# Altium integrated library Linear Technology Power Management Power Control.IntLib: 661 symbols (part 36 of 43)
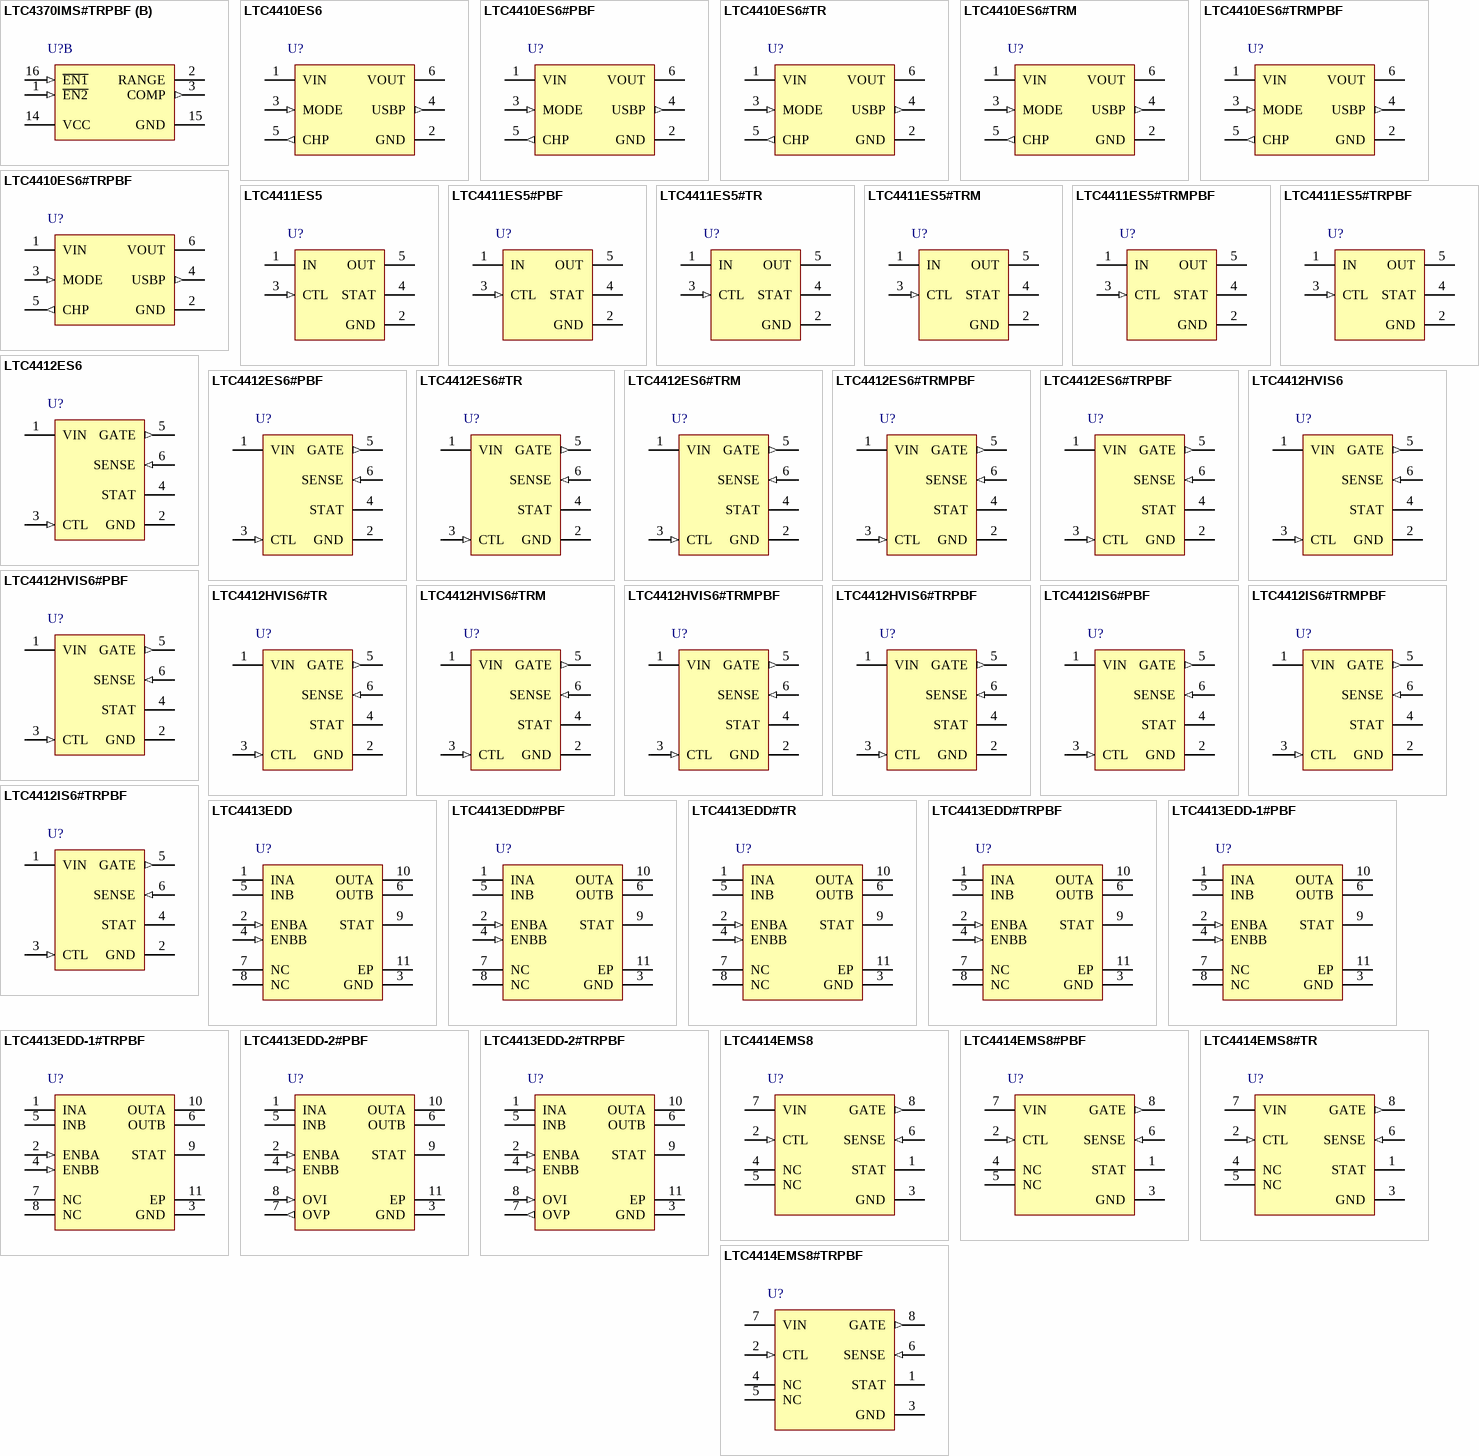
[diagram p54: symbols LTC4370IMS#TRPBF to LTC4414EMS8#TRPBF]

## LTC4413EDD-2#TRPBF
designator U?
Dual 2.6 A, Fast Ideal Diode, Overvoltage Protection Sensor with Drive Output for An External P-Channel MOSFET, 2.6 to 5.5 V Vin, 10-pin SON (DD-10), -40 to 85 degC, Pb-Free, Tape and Reel; Manufacturer: Linear Technology; PartNumber: LTC4413EDD-2#TRPBF; Ideal Diode: Dual, Internal, P-Channel; DatasheetVersion: Rev. D; PackageVersion: Rev. C, 06/2010; PackageReference: DD-10; PackageDescription: 10-Pin Plastic DFN, Body 3 x 3 mm, Pitch 0.5 mm; Supplier 1: Digi-Key; Supplier Part Number 1: LTC4413EDD-2#TRPBF-ND; Supplier 2: Newark; Supplier Part Number 2: 56M9528; Packing: Tape and Reel; RoHS: TRUE; Mounting Technology: Surface Mount; Code_JEDEC: MO-229; ComponentLink1Description: Manufacturer URL; ComponentLink1URL: http://www.linear.com/; ComponentLink2Description: Datasheet; ComponentLink2URL: http://cds.linear.com/docs/en/datasheet/441312fd.pdf; ComponentLink3Description: Package Specification; ComponentLink3URL: http://cds.linear.com/docs/en/packaging/DFN_10_05-08-1699.pdf
footprint LT-DD-10_V (SON, 10-Leads, Body 3x3mm, Pitch 0.5mm, Thermal Pad 2.38x1.65mm)
pins: 1 INA (power) "Primary Ideal Diode Anode and Positive Power Supply for LTC4413-1/LTC4413-2. Bypass INA with a ceramic capacitor of at least 1uF. (Series 1ohm snub resistors and higher valued capacitances are recommended when large (See Datasheet)", 2 ENBA (in) "Enable Low for Diode A. Pull this pin high to shut down this power path. Tie to GND to enable. Refer to Table 1 for mode control functionality. This pin can be left floating, a weak (3.5uA) pull-down internal to (See Datasheet)", 3 GND (power) "Power Ground for the IC.", 4 ENBB (in) "Enable Low for Diode B. Pull this pin high to shut down this power path. Tie to GND to enable. Refer to Table 1 for mode control functionality. This pin can be left floating, a weak (3.5uA) pull-down internal to (See Datasheet)", 5 INB (power) "Secondary Ideal Diode Anode and Positive Power Supply for LTC4413-1/LTC4413-2. Bypass INB with a ceramic capacitor of at least 1uF. (Series 1ohm snub resistors and higher valued capacitances are recommended when large (See Datasheet)", 6 OUTB (power) "Secondary Ideal Diode Cathode and Output of the LTC4413-1/LTC4413-2. Bypass OUTB with a high (1mohm min) ESR ceramic capacitor of at least 4.7uF. This pin must be left floating when not in use. Limit slew rate on this pin to (See Datasheet)", 7 OVP (out) "Drive Output for an External OVP Switch PMOS Transistor (To Inhibit Overvoltage Wall Adapter Voltages from Damaging Device.) During overvoltage conditions, this output will remain high so long as an overvoltage condition (See Datasheet)", 8 OVI (in) "Sense Input for Overvoltage Protection Block. This pin can be left floating or grounded when not used.", 9 STAT (oc) "Status Condition Indicator. Weak (11uA) pull-down current output. When terminated, high indicates diode conducting. Refer to Table 2 for the operation of this pin. This pin can also be left floating or grounded.", 10 OUTA (power) "Primary Ideal Diode Cathode and Output of the LTC4413-1/LTC4413-2. Bypass OUTA with a high (1mohm min) ESR ceramic capacitor of at least 4.7uF. This pin must be left floating when not in use. Limit slew rate on this pin to (See Datasheet)", 11 EP (power) "Signal Ground. This pin must be soldered to PCB ground to provide both electrical contact to ground and good thermal contact to PCB."

## LTC4414EMS8
designator U?
Low Loss PowerPath Controller for Large PFET, 3 to 36 V Vin, 8-pin SOP (MS8-8), -40 to 85 degC; Manufacturer: Linear Technology; PartNumber: LTC4414EMS8; Ideal Diode: Single, External, P-Channel; DatasheetVersion: Rev. C; PackageVersion: Rev. G, 03/2012; PackageReference: MS8-8; PackageDescription: 8-Pin Plastic MSOP, Body 3 x 3 mm, Pitch 0.65 mm; Supplier 1: Newark; Supplier Part Number 1: 56M9532; RoHS: FALSE; Mounting Technology: Surface Mount; ComponentLink1Description: Manufacturer URL; ComponentLink1URL: http://www.linear.com/; ComponentLink2Description: Datasheet; ComponentLink2URL: http://cds.linear.com/docs/en/datasheet/4414fc.pdf; ComponentLink3Description: Package Specification; ComponentLink3URL: http://cds.linear.com/docs/en/packaging/05081660_G_MS8.pdf
footprint LT-MS8-8_N (SOP, 8-Leads, Body 3.1x3.1mm, Pitch 0.65mm, IPC Medium Density)
footprint LT-MS8-8_L (SOP, 8-Leads, Body 3.1x3.1mm, Pitch 0.65mm, IPC High Density)
footprint LT-MS8-8_M (SOP, 8-Leads, Body 3.1x3.1mm, Pitch 0.65mm, IPC Low Density)
pins: 1 STAT (oc) "Open-Drain Output Status Pin. When the SENSE pin is pulled above the VIN pin with an auxiliary power source by VRTO or more, the reverse turn-off threshold (VRTO) is reached. The STAT pin will then go from an open state to a (See Datasheet)", 2 CTL (in) "Digital Control Input. A logical high input (VIH) on this pin forces the gate to source voltage of the primary P-channel MOSFET power switch to a small voltage (VGOFF). This will turn the MOSFET off and no current will flow (See Datasheet)", 3 GND (power) "Ground. Provides a power return for all the internal circuits.", 4 NC "No Connection.", 5 NC "No Connection.", 6 SENSE (in) "Power Sense Input Pin. Supplies power to the internal circuitry and is a voltage sense input to the internal analog controller (The other input to the controller is the VIN pin). This input is usually supplied power from an (See Datasheet)", 7 VIN (power) "Primary Input Supply Voltage. Supplies power to the internal circuitry and is one of two voltage sense inputs to the internal analog controller (The other input to the controller is the SENSE pin). This input is usually (See Datasheet)", 8 GATE (out) "Primary P-Channel MOSFET Power Switch Gate Drive Pin. This pin is directed by the power controller to maintain a forward regulation voltage (VFR) of 20mV between the VIN and SENSE pins when an auxiliary power source is not (See Datasheet)"

## LTC4414EMS8#PBF
designator U?
Low Loss PowerPath Controller for Large PFET, 3 to 36 V Vin, 8-pin SOP (MS8-8), -40 to 85 degC, Pb-Free; Manufacturer: Linear Technology; PartNumber: LTC4414EMS8#PBF; Ideal Diode: Single, External, P-Channel; DatasheetVersion: Rev. C; PackageVersion: Rev. G, 03/2012; PackageReference: MS8-8; PackageDescription: 8-Pin Plastic MSOP, Body 3 x 3 mm, Pitch 0.65 mm; Supplier 1: Digi-Key; Supplier Part Number 1: LTC4414EMS8#PBF-ND; Supplier 2: Farnell; Supplier Part Number 2: 1273551; Supplier 3: Newark; Supplier Part Number 3: 56M9533; RoHS: TRUE; Mounting Technology: Surface Mount; ComponentLink1Description: Manufacturer URL; ComponentLink1URL: http://www.linear.com/; ComponentLink2Description: Datasheet; ComponentLink2URL: http://cds.linear.com/docs/en/datasheet/4414fc.pdf; ComponentLink3Description: Package Specification; ComponentLink3URL: http://cds.linear.com/docs/en/packaging/05081660_G_MS8.pdf
footprint LT-MS8-8_N (SOP, 8-Leads, Body 3.1x3.1mm, Pitch 0.65mm, IPC Medium Density)
footprint LT-MS8-8_L (SOP, 8-Leads, Body 3.1x3.1mm, Pitch 0.65mm, IPC High Density)
footprint LT-MS8-8_M (SOP, 8-Leads, Body 3.1x3.1mm, Pitch 0.65mm, IPC Low Density)
pins: 1 STAT (oc) "Open-Drain Output Status Pin. When the SENSE pin is pulled above the VIN pin with an auxiliary power source by VRTO or more, the reverse turn-off threshold (VRTO) is reached. The STAT pin will then go from an open state to a (See Datasheet)", 2 CTL (in) "Digital Control Input. A logical high input (VIH) on this pin forces the gate to source voltage of the primary P-channel MOSFET power switch to a small voltage (VGOFF). This will turn the MOSFET off and no current will flow (See Datasheet)", 3 GND (power) "Ground. Provides a power return for all the internal circuits.", 4 NC "No Connection.", 5 NC "No Connection.", 6 SENSE (in) "Power Sense Input Pin. Supplies power to the internal circuitry and is a voltage sense input to the internal analog controller (The other input to the controller is the VIN pin). This input is usually supplied power from an (See Datasheet)", 7 VIN (power) "Primary Input Supply Voltage. Supplies power to the internal circuitry and is one of two voltage sense inputs to the internal analog controller (The other input to the controller is the SENSE pin). This input is usually (See Datasheet)", 8 GATE (out) "Primary P-Channel MOSFET Power Switch Gate Drive Pin. This pin is directed by the power controller to maintain a forward regulation voltage (VFR) of 20mV between the VIN and SENSE pins when an auxiliary power source is not (See Datasheet)"

## LTC4414EMS8#TR
designator U?
Low Loss PowerPath Controller for Large PFET, 3 to 36 V Vin, 8-pin SOP (MS8-8), -40 to 85 degC, Tape and Reel; Manufacturer: Linear Technology; PartNumber: LTC4414EMS8#TR; Ideal Diode: Single, External, P-Channel; DatasheetVersion: Rev. C; PackageVersion: Rev. G, 03/2012; PackageReference: MS8-8; PackageDescription: 8-Pin Plastic MSOP, Body 3 x 3 mm, Pitch 0.65 mm; Packing: Tape and Reel; RoHS: FALSE; Mounting Technology: Surface Mount; ComponentLink1Description: Manufacturer URL; ComponentLink1URL: http://www.linear.com/; ComponentLink2Description: Datasheet; ComponentLink2URL: http://cds.linear.com/docs/en/datasheet/4414fc.pdf; ComponentLink3Description: Package Specification; ComponentLink3URL: http://cds.linear.com/docs/en/packaging/05081660_G_MS8.pdf
footprint LT-MS8-8_N (SOP, 8-Leads, Body 3.1x3.1mm, Pitch 0.65mm, IPC Medium Density)
footprint LT-MS8-8_L (SOP, 8-Leads, Body 3.1x3.1mm, Pitch 0.65mm, IPC High Density)
footprint LT-MS8-8_M (SOP, 8-Leads, Body 3.1x3.1mm, Pitch 0.65mm, IPC Low Density)
pins: 1 STAT (oc) "Open-Drain Output Status Pin. When the SENSE pin is pulled above the VIN pin with an auxiliary power source by VRTO or more, the reverse turn-off threshold (VRTO) is reached. The STAT pin will then go from an open state to a (See Datasheet)", 2 CTL (in) "Digital Control Input. A logical high input (VIH) on this pin forces the gate to source voltage of the primary P-channel MOSFET power switch to a small voltage (VGOFF). This will turn the MOSFET off and no current will flow (See Datasheet)", 3 GND (power) "Ground. Provides a power return for all the internal circuits.", 4 NC "No Connection.", 5 NC "No Connection.", 6 SENSE (in) "Power Sense Input Pin. Supplies power to the internal circuitry and is a voltage sense input to the internal analog controller (The other input to the controller is the VIN pin). This input is usually supplied power from an (See Datasheet)", 7 VIN (power) "Primary Input Supply Voltage. Supplies power to the internal circuitry and is one of two voltage sense inputs to the internal analog controller (The other input to the controller is the SENSE pin). This input is usually (See Datasheet)", 8 GATE (out) "Primary P-Channel MOSFET Power Switch Gate Drive Pin. This pin is directed by the power controller to maintain a forward regulation voltage (VFR) of 20mV between the VIN and SENSE pins when an auxiliary power source is not (See Datasheet)"

## LTC4414EMS8#TRPBF
designator U?
Low Loss PowerPath Controller for Large PFET, 3 to 36 V Vin, 8-pin SOP (MS8-8), -40 to 85 degC, Pb-Free, Tape and Reel; Manufacturer: Linear Technology; PartNumber: LTC4414EMS8#TRPBF; Ideal Diode: Single, External, P-Channel; DatasheetVersion: Rev. C; PackageVersion: Rev. G, 03/2012; PackageReference: MS8-8; PackageDescription: 8-Pin Plastic MSOP, Body 3 x 3 mm, Pitch 0.65 mm; Supplier 1: Digi-Key; Supplier Part Number 1: LTC4414EMS8#TRPBF-ND; Supplier 2: Newark; Supplier Part Number 2: 56M9535; Packing: Tape and Reel; RoHS: TRUE; Mounting Technology: Surface Mount; ComponentLink1Description: Manufacturer URL; ComponentLink1URL: http://www.linear.com/; ComponentLink2Description: Datasheet; ComponentLink2URL: http://cds.linear.com/docs/en/datasheet/4414fc.pdf; ComponentLink3Description: Package Specification; ComponentLink3URL: http://cds.linear.com/docs/en/packaging/05081660_G_MS8.pdf
footprint LT-MS8-8_N (SOP, 8-Leads, Body 3.1x3.1mm, Pitch 0.65mm, IPC Medium Density)
footprint LT-MS8-8_L (SOP, 8-Leads, Body 3.1x3.1mm, Pitch 0.65mm, IPC High Density)
footprint LT-MS8-8_M (SOP, 8-Leads, Body 3.1x3.1mm, Pitch 0.65mm, IPC Low Density)
pins: 1 STAT (oc) "Open-Drain Output Status Pin. When the SENSE pin is pulled above the VIN pin with an auxiliary power source by VRTO or more, the reverse turn-off threshold (VRTO) is reached. The STAT pin will then go from an open state to a (See Datasheet)", 2 CTL (in) "Digital Control Input. A logical high input (VIH) on this pin forces the gate to source voltage of the primary P-channel MOSFET power switch to a small voltage (VGOFF). This will turn the MOSFET off and no current will flow (See Datasheet)", 3 GND (power) "Ground. Provides a power return for all the internal circuits.", 4 NC "No Connection.", 5 NC "No Connection.", 6 SENSE (in) "Power Sense Input Pin. Supplies power to the internal circuitry and is a voltage sense input to the internal analog controller (The other input to the controller is the VIN pin). This input is usually supplied power from an (See Datasheet)", 7 VIN (power) "Primary Input Supply Voltage. Supplies power to the internal circuitry and is one of two voltage sense inputs to the internal analog controller (The other input to the controller is the SENSE pin). This input is usually (See Datasheet)", 8 GATE (out) "Primary P-Channel MOSFET Power Switch Gate Drive Pin. This pin is directed by the power controller to maintain a forward regulation voltage (VFR) of 20mV between the VIN and SENSE pins when an auxiliary power source is not (See Datasheet)"

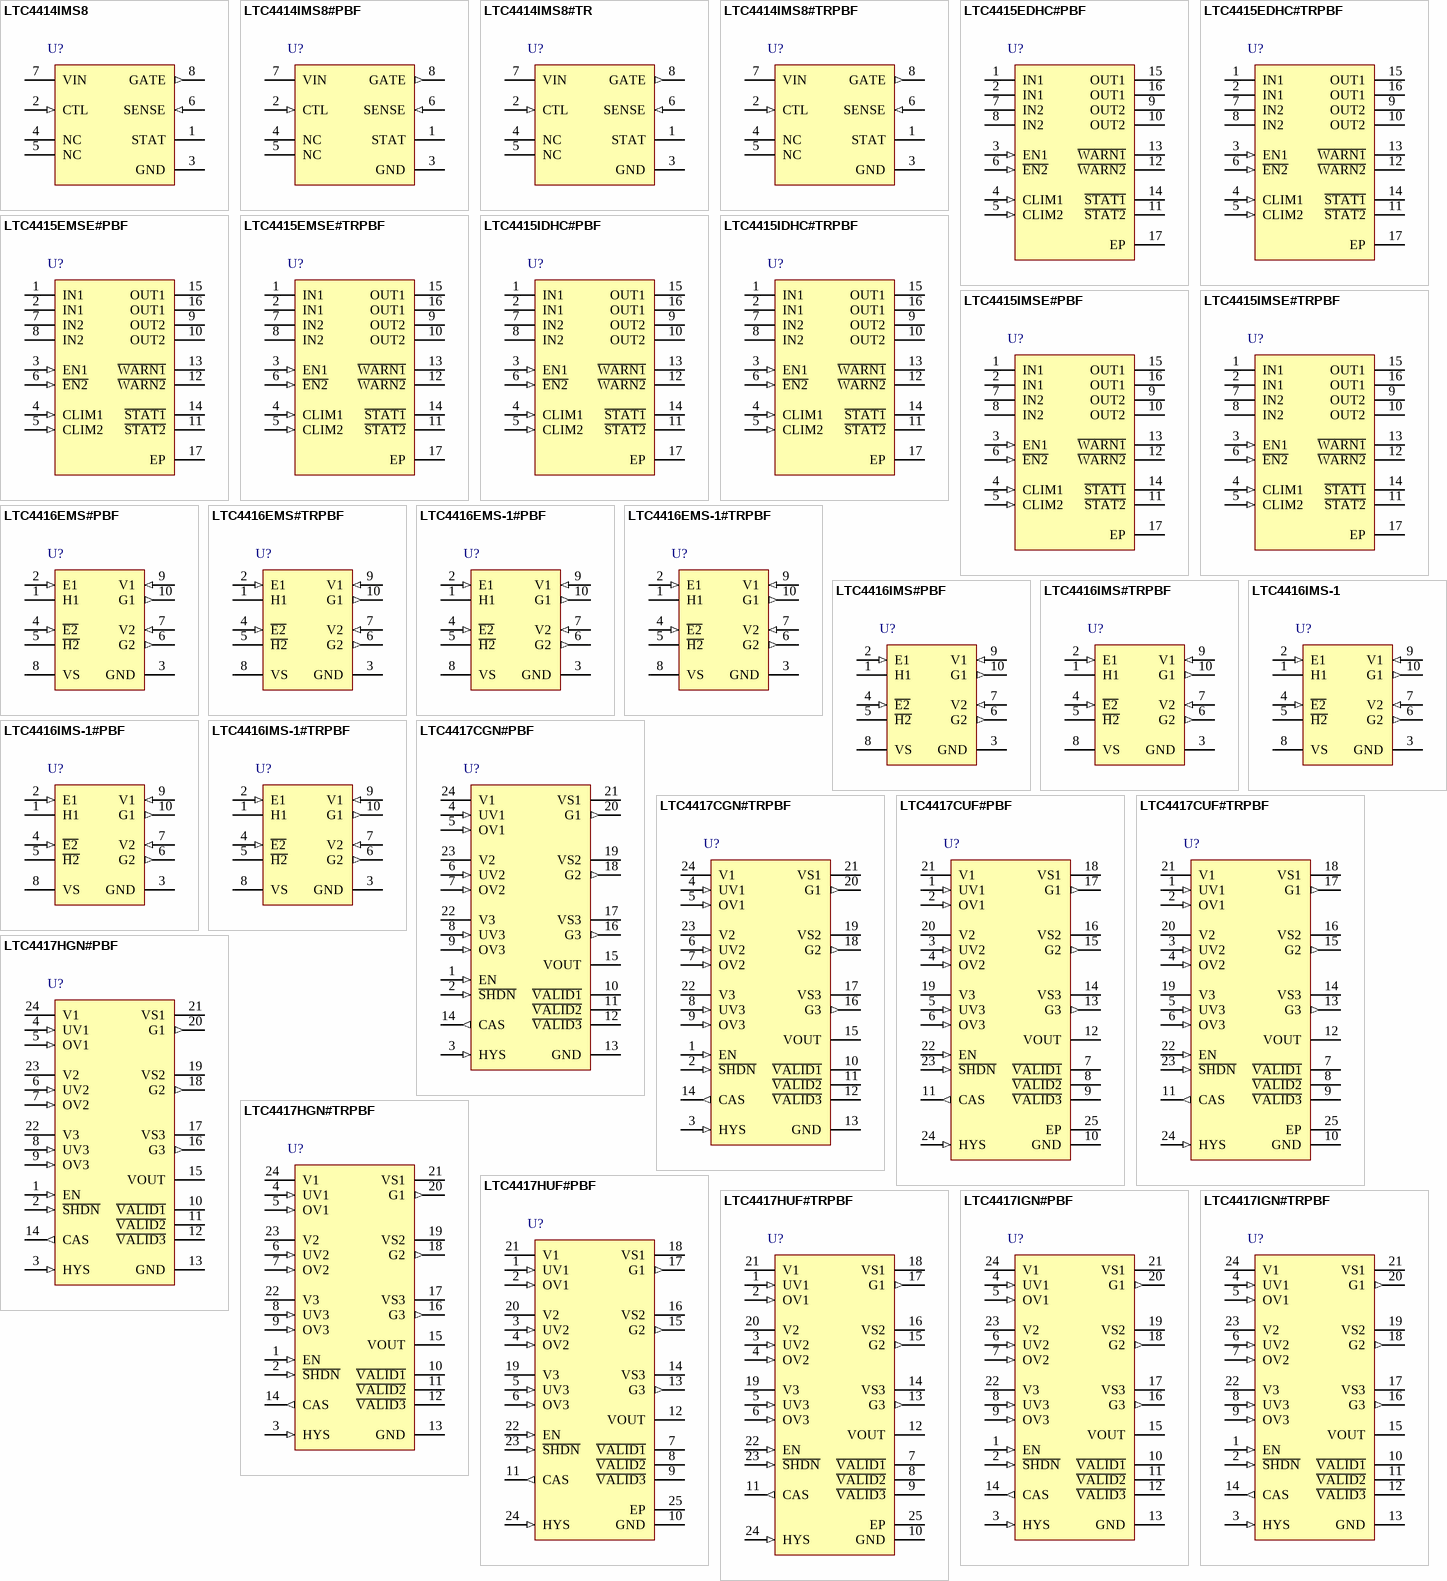
[diagram p17: symbols LTC4414IMS8 to LTC4417IGN#TRPBF]

## LTC4414IMS8
designator U?
Low Loss PowerPath Controller for Large PFET, 3 to 36 V Vin, 8-pin SOP (MS8-8), -40 to 125 degC; Manufacturer: Linear Technology; PartNumber: LTC4414IMS8; Ideal Diode: Single, External, P-Channel; DatasheetVersion: Rev. C; PackageVersion: Rev. G, 03/2012; PackageReference: MS8-8; PackageDescription: 8-Pin Plastic MSOP, Body 3 x 3 mm, Pitch 0.65 mm; RoHS: FALSE; Mounting Technology: Surface Mount; ComponentLink1Description: Manufacturer URL; ComponentLink1URL: http://www.linear.com/; ComponentLink2Description: Datasheet; ComponentLink2URL: http://cds.linear.com/docs/en/datasheet/4414fc.pdf; ComponentLink3Description: Package Specification; ComponentLink3URL: http://cds.linear.com/docs/en/packaging/05081660_G_MS8.pdf
footprint LT-MS8-8_N (SOP, 8-Leads, Body 3.1x3.1mm, Pitch 0.65mm, IPC Medium Density)
footprint LT-MS8-8_L (SOP, 8-Leads, Body 3.1x3.1mm, Pitch 0.65mm, IPC High Density)
footprint LT-MS8-8_M (SOP, 8-Leads, Body 3.1x3.1mm, Pitch 0.65mm, IPC Low Density)
pins: 1 STAT (oc) "Open-Drain Output Status Pin. When the SENSE pin is pulled above the VIN pin with an auxiliary power source by VRTO or more, the reverse turn-off threshold (VRTO) is reached. The STAT pin will then go from an open state to a (See Datasheet)", 2 CTL (in) "Digital Control Input. A logical high input (VIH) on this pin forces the gate to source voltage of the primary P-channel MOSFET power switch to a small voltage (VGOFF). This will turn the MOSFET off and no current will flow (See Datasheet)", 3 GND (power) "Ground. Provides a power return for all the internal circuits.", 4 NC "No Connection.", 5 NC "No Connection.", 6 SENSE (in) "Power Sense Input Pin. Supplies power to the internal circuitry and is a voltage sense input to the internal analog controller (The other input to the controller is the VIN pin). This input is usually supplied power from an (See Datasheet)", 7 VIN (power) "Primary Input Supply Voltage. Supplies power to the internal circuitry and is one of two voltage sense inputs to the internal analog controller (The other input to the controller is the SENSE pin). This input is usually (See Datasheet)", 8 GATE (out) "Primary P-Channel MOSFET Power Switch Gate Drive Pin. This pin is directed by the power controller to maintain a forward regulation voltage (VFR) of 20mV between the VIN and SENSE pins when an auxiliary power source is not (See Datasheet)"

## LTC4414IMS8#PBF
designator U?
Low Loss PowerPath Controller for Large PFET, 3 to 36 V Vin, 8-pin SOP (MS8-8), -40 to 125 degC, Pb-Free; Manufacturer: Linear Technology; PartNumber: LTC4414IMS8#PBF; Ideal Diode: Single, External, P-Channel; DatasheetVersion: Rev. C; PackageVersion: Rev. G, 03/2012; PackageReference: MS8-8; PackageDescription: 8-Pin Plastic MSOP, Body 3 x 3 mm, Pitch 0.65 mm; Supplier 1: Digi-Key; Supplier Part Number 1: LTC4414IMS8#PBF-ND; Supplier 2: Newark; Supplier Part Number 2: 56M9537; RoHS: TRUE; Mounting Technology: Surface Mount; ComponentLink1Description: Manufacturer URL; ComponentLink1URL: http://www.linear.com/; ComponentLink2Description: Datasheet; ComponentLink2URL: http://cds.linear.com/docs/en/datasheet/4414fc.pdf; ComponentLink3Description: Package Specification; ComponentLink3URL: http://cds.linear.com/docs/en/packaging/05081660_G_MS8.pdf
footprint LT-MS8-8_N (SOP, 8-Leads, Body 3.1x3.1mm, Pitch 0.65mm, IPC Medium Density)
footprint LT-MS8-8_L (SOP, 8-Leads, Body 3.1x3.1mm, Pitch 0.65mm, IPC High Density)
footprint LT-MS8-8_M (SOP, 8-Leads, Body 3.1x3.1mm, Pitch 0.65mm, IPC Low Density)
pins: 1 STAT (oc) "Open-Drain Output Status Pin. When the SENSE pin is pulled above the VIN pin with an auxiliary power source by VRTO or more, the reverse turn-off threshold (VRTO) is reached. The STAT pin will then go from an open state to a (See Datasheet)", 2 CTL (in) "Digital Control Input. A logical high input (VIH) on this pin forces the gate to source voltage of the primary P-channel MOSFET power switch to a small voltage (VGOFF). This will turn the MOSFET off and no current will flow (See Datasheet)", 3 GND (power) "Ground. Provides a power return for all the internal circuits.", 4 NC "No Connection.", 5 NC "No Connection.", 6 SENSE (in) "Power Sense Input Pin. Supplies power to the internal circuitry and is a voltage sense input to the internal analog controller (The other input to the controller is the VIN pin). This input is usually supplied power from an (See Datasheet)", 7 VIN (power) "Primary Input Supply Voltage. Supplies power to the internal circuitry and is one of two voltage sense inputs to the internal analog controller (The other input to the controller is the SENSE pin). This input is usually (See Datasheet)", 8 GATE (out) "Primary P-Channel MOSFET Power Switch Gate Drive Pin. This pin is directed by the power controller to maintain a forward regulation voltage (VFR) of 20mV between the VIN and SENSE pins when an auxiliary power source is not (See Datasheet)"

## LTC4414IMS8#TR
designator U?
Low Loss PowerPath Controller for Large PFET, 3 to 36 V Vin, 8-pin SOP (MS8-8), -40 to 125 degC, Tape and Reel; Manufacturer: Linear Technology; PartNumber: LTC4414IMS8#TR; Ideal Diode: Single, External, P-Channel; DatasheetVersion: Rev. C; PackageVersion: Rev. G, 03/2012; PackageReference: MS8-8; PackageDescription: 8-Pin Plastic MSOP, Body 3 x 3 mm, Pitch 0.65 mm; Packing: Tape and Reel; RoHS: FALSE; Mounting Technology: Surface Mount; ComponentLink1Description: Manufacturer URL; ComponentLink1URL: http://www.linear.com/; ComponentLink2Description: Datasheet; ComponentLink2URL: http://cds.linear.com/docs/en/datasheet/4414fc.pdf; ComponentLink3Description: Package Specification; ComponentLink3URL: http://cds.linear.com/docs/en/packaging/05081660_G_MS8.pdf
footprint LT-MS8-8_N (SOP, 8-Leads, Body 3.1x3.1mm, Pitch 0.65mm, IPC Medium Density)
footprint LT-MS8-8_L (SOP, 8-Leads, Body 3.1x3.1mm, Pitch 0.65mm, IPC High Density)
footprint LT-MS8-8_M (SOP, 8-Leads, Body 3.1x3.1mm, Pitch 0.65mm, IPC Low Density)
pins: 1 STAT (oc) "Open-Drain Output Status Pin. When the SENSE pin is pulled above the VIN pin with an auxiliary power source by VRTO or more, the reverse turn-off threshold (VRTO) is reached. The STAT pin will then go from an open state to a (See Datasheet)", 2 CTL (in) "Digital Control Input. A logical high input (VIH) on this pin forces the gate to source voltage of the primary P-channel MOSFET power switch to a small voltage (VGOFF). This will turn the MOSFET off and no current will flow (See Datasheet)", 3 GND (power) "Ground. Provides a power return for all the internal circuits.", 4 NC "No Connection.", 5 NC "No Connection.", 6 SENSE (in) "Power Sense Input Pin. Supplies power to the internal circuitry and is a voltage sense input to the internal analog controller (The other input to the controller is the VIN pin). This input is usually supplied power from an (See Datasheet)", 7 VIN (power) "Primary Input Supply Voltage. Supplies power to the internal circuitry and is one of two voltage sense inputs to the internal analog controller (The other input to the controller is the SENSE pin). This input is usually (See Datasheet)", 8 GATE (out) "Primary P-Channel MOSFET Power Switch Gate Drive Pin. This pin is directed by the power controller to maintain a forward regulation voltage (VFR) of 20mV between the VIN and SENSE pins when an auxiliary power source is not (See Datasheet)"

## LTC4414IMS8#TRPBF
designator U?
Low Loss PowerPath Controller for Large PFET, 3 to 36 V Vin, 8-pin SOP (MS8-8), -40 to 125 degC, Pb-Free, Tape and Reel; Manufacturer: Linear Technology; PartNumber: LTC4414IMS8#TRPBF; Ideal Diode: Single, External, P-Channel; DatasheetVersion: Rev. C; PackageVersion: Rev. G, 03/2012; PackageReference: MS8-8; PackageDescription: 8-Pin Plastic MSOP, Body 3 x 3 mm, Pitch 0.65 mm; Supplier 1: Digi-Key; Supplier Part Number 1: LTC4414IMS8#TRPBF-ND; Supplier 2: Newark; Supplier Part Number 2: 56M9539; Packing: Tape and Reel; RoHS: TRUE; Mounting Technology: Surface Mount; ComponentLink1Description: Manufacturer URL; ComponentLink1URL: http://www.linear.com/; ComponentLink2Description: Datasheet; ComponentLink2URL: http://cds.linear.com/docs/en/datasheet/4414fc.pdf; ComponentLink3Description: Package Specification; ComponentLink3URL: http://cds.linear.com/docs/en/packaging/05081660_G_MS8.pdf
footprint LT-MS8-8_N (SOP, 8-Leads, Body 3.1x3.1mm, Pitch 0.65mm, IPC Medium Density)
footprint LT-MS8-8_L (SOP, 8-Leads, Body 3.1x3.1mm, Pitch 0.65mm, IPC High Density)
footprint LT-MS8-8_M (SOP, 8-Leads, Body 3.1x3.1mm, Pitch 0.65mm, IPC Low Density)
pins: 1 STAT (oc) "Open-Drain Output Status Pin. When the SENSE pin is pulled above the VIN pin with an auxiliary power source by VRTO or more, the reverse turn-off threshold (VRTO) is reached. The STAT pin will then go from an open state to a (See Datasheet)", 2 CTL (in) "Digital Control Input. A logical high input (VIH) on this pin forces the gate to source voltage of the primary P-channel MOSFET power switch to a small voltage (VGOFF). This will turn the MOSFET off and no current will flow (See Datasheet)", 3 GND (power) "Ground. Provides a power return for all the internal circuits.", 4 NC "No Connection.", 5 NC "No Connection.", 6 SENSE (in) "Power Sense Input Pin. Supplies power to the internal circuitry and is a voltage sense input to the internal analog controller (The other input to the controller is the VIN pin). This input is usually supplied power from an (See Datasheet)", 7 VIN (power) "Primary Input Supply Voltage. Supplies power to the internal circuitry and is one of two voltage sense inputs to the internal analog controller (The other input to the controller is the SENSE pin). This input is usually (See Datasheet)", 8 GATE (out) "Primary P-Channel MOSFET Power Switch Gate Drive Pin. This pin is directed by the power controller to maintain a forward regulation voltage (VFR) of 20mV between the VIN and SENSE pins when an auxiliary power source is not (See Datasheet)"

## LTC4415EDHC#PBF
designator U?
Dual 4 A Ideal Diode with Adjustable Current Limit, Imon Output, Overcurrent Warning, Thermal Warning, 1.7 to 5.5 V Vin, 16-pin DFN (DHC-16_A), -40 to 125 degC, Pb-Free; Manufacturer: Linear Technology; PartNumber: LTC4415EDHC#PBF; Ideal Diode: Dual, Internal, P-Channel; DatasheetVersion: Rev. Ø; PackageVersion: Rev. Ø; PackageReference: DHC-16; PackageDescription: 16-Pin Plastic DFN, Body 5 x 3 mm, Pitch 0.5 mm; Supplier 1: Digi-Key; Supplier Part Number 1: LTC4415EDHC#PBF-ND; Supplier 2: Newark; Supplier Part Number 2: 78T3426; RoHS: TRUE; Mounting Technology: Surface Mount; Code_JEDEC: MO-229; ComponentLink1Description: Manufacturer URL; ComponentLink1URL: http://www.linear.com/; ComponentLink2Description: Datasheet; ComponentLink2URL: http://cds.linear.com/docs/en/datasheet/4415fa.pdf; ComponentLink3Description: Package Specification; ComponentLink3URL: http://cds.linear.com/docs/en/datasheet/4415fa.pdf
footprint LT-DHC-16_A_V (DHC-16_A, 16-Leads, Body 5x3mm, Pitch 0.5mm, Thermal Pad 4.4x1.65mm)
pins: 1 IN1 (power) "Diode 1 Anode and Positive Power Supply for LTC4415. Bypass IN1 with a ceramic capacitor of at least 4.7uF. Pins 1 and 2 are fused together on the package. These pins can be grounded when not used.", 2 IN1 (power) "Diode 1 Anode and Positive Power Supply for LTC4415. Bypass IN1 with a ceramic capacitor of at least 4.7uF. Pins 1 and 2 are fused together on the package. These pins can be grounded when not used.", 3 EN1 (in) "Enable Input for Diode 1. A high signal greater than VENTH enables Diode 1.", 4 CLIM1 (in) "Current Limit Adjust and Monitor Pin for Diode 1. Connect a resistor from CLIM1 to ground to set the current limit; the diode 1 current can then be monitored by measuring the voltage on CLIM1 pin. A fixed 6A internal current (See Datasheet)", 5 CLIM2 (in) "Current Limit Adjust and Monitor Pin for Diode 2. Connect a resistor from CLIM2 to ground to set the current limit; the diode 2 current can then be monitored by measuring the voltage on CLIM2 pin. A fixed 6A internal current (See Datasheet)", 6 ~{EN2} (in) "Enable Input for Diode 2. A low signal less than VENTH enables Diode 2.", 7 IN2 (power) "Diode 2 Anode and Positive Power Supply for LTC4415. Bypass IN2 with a ceramic capacitor of at least 4.7uF. Pins 7 and 8 are fused together on the package. These pins can be grounded when not used.", 8 IN2 (power) "Diode 2 Anode and Positive Power Supply for LTC4415. Bypass IN2 with a ceramic capacitor of at least 4.7uF. Pins 7 and 8 are fused together on the package. These pins can be grounded when not used.", 9 OUT2 (power) "Diode 2 Cathode and Output of LTC4415. Bypass OUT2 with a ceramic capacitor of at least 4.7uF. Pins 9 and 10 are fused together on the package. Leave these pins open when not used.", 10 OUT2 (power) "Diode 2 Cathode and Output of LTC4415. Bypass OUT2 with a ceramic capacitor of at least 4.7uF. Pins 9 and 10 are fused together on the package. Leave these pins open when not used.", 11 ~{STAT2} (hiz) "Status Indicator for Diode 2. Open-drain output pulls down during forward diode conduction. This pin can be left open or grounded when not used.", 12 ~{WARN2} (oc) "Overcurrent and Thermal Warning Indicator for Diode 2. Open-drain output pulls down when diode 2 current exceeds its current limit or die temperature is close to thermal shutdown.", 13 ~{WARN1} (oc) "Overcurrent and Thermal Warning Indicator for Diode 1. Open-drain output pulls down when diode 1 current exceeds its current limit or die temperature is close to thermal shutdown.", 14 ~{STAT1} (hiz) "Status Indicator for Diode 1. Open-drain output pulls down during forward diode conduction. This pin can be left open or grounded when not used.", 15 OUT1 (power) "Diode 1 Cathode and Output of LTC4415. Bypass OUT1 with a ceramic capacitor of at least 4.7uF. Pins 15 and 16 are fused together on the package. Leave these pins open when not used.", 16 OUT1 (power) "Diode 1 Cathode and Output of LTC4415. Bypass OUT1 with a ceramic capacitor of at least 4.7uF. Pins 15 and 16 are fused together on the package. Leave these pins open when not used.", 17 EP (power) "Device Ground. The exposed pad must be soldered to PCB ground to provide both electrical connection to ground and good thermal conductivity to PCB."

## LTC4415EDHC#TRPBF
designator U?
Dual 4 A Ideal Diode with Adjustable Current Limit, Imon Output, Overcurrent Warning, Thermal Warning, 1.7 to 5.5 V Vin, 16-pin DFN (DHC-16_A), -40 to 125 degC, Pb-Free, Tape and Reel; Manufacturer: Linear Technology; PartNumber: LTC4415EDHC#TRPBF; Ideal Diode: Dual, Internal, P-Channel; DatasheetVersion: Rev. Ø; PackageVersion: Rev. Ø; PackageReference: DHC-16; PackageDescription: 16-Pin Plastic DFN, Body 5 x 3 mm, Pitch 0.5 mm; Supplier 1: Digi-Key; Supplier Part Number 1: LTC4415EDHC#TRPBF-ND; Supplier 2: Newark; Supplier Part Number 2: 78T3427; Packing: Tape and Reel; RoHS: TRUE; Mounting Technology: Surface Mount; Code_JEDEC: MO-229; ComponentLink1Description: Manufacturer URL; ComponentLink1URL: http://www.linear.com/; ComponentLink2Description: Datasheet; ComponentLink2URL: http://cds.linear.com/docs/en/datasheet/4415fa.pdf; ComponentLink3Description: Package Specification; ComponentLink3URL: http://cds.linear.com/docs/en/datasheet/4415fa.pdf
footprint LT-DHC-16_A_V (DHC-16_A, 16-Leads, Body 5x3mm, Pitch 0.5mm, Thermal Pad 4.4x1.65mm)
pins: 1 IN1 (power) "Diode 1 Anode and Positive Power Supply for LTC4415. Bypass IN1 with a ceramic capacitor of at least 4.7uF. Pins 1 and 2 are fused together on the package. These pins can be grounded when not used.", 2 IN1 (power) "Diode 1 Anode and Positive Power Supply for LTC4415. Bypass IN1 with a ceramic capacitor of at least 4.7uF. Pins 1 and 2 are fused together on the package. These pins can be grounded when not used.", 3 EN1 (in) "Enable Input for Diode 1. A high signal greater than VENTH enables Diode 1.", 4 CLIM1 (in) "Current Limit Adjust and Monitor Pin for Diode 1. Connect a resistor from CLIM1 to ground to set the current limit; the diode 1 current can then be monitored by measuring the voltage on CLIM1 pin. A fixed 6A internal current (See Datasheet)", 5 CLIM2 (in) "Current Limit Adjust and Monitor Pin for Diode 2. Connect a resistor from CLIM2 to ground to set the current limit; the diode 2 current can then be monitored by measuring the voltage on CLIM2 pin. A fixed 6A internal current (See Datasheet)", 6 ~{EN2} (in) "Enable Input for Diode 2. A low signal less than VENTH enables Diode 2.", 7 IN2 (power) "Diode 2 Anode and Positive Power Supply for LTC4415. Bypass IN2 with a ceramic capacitor of at least 4.7uF. Pins 7 and 8 are fused together on the package. These pins can be grounded when not used.", 8 IN2 (power) "Diode 2 Anode and Positive Power Supply for LTC4415. Bypass IN2 with a ceramic capacitor of at least 4.7uF. Pins 7 and 8 are fused together on the package. These pins can be grounded when not used.", 9 OUT2 (power) "Diode 2 Cathode and Output of LTC4415. Bypass OUT2 with a ceramic capacitor of at least 4.7uF. Pins 9 and 10 are fused together on the package. Leave these pins open when not used.", 10 OUT2 (power) "Diode 2 Cathode and Output of LTC4415. Bypass OUT2 with a ceramic capacitor of at least 4.7uF. Pins 9 and 10 are fused together on the package. Leave these pins open when not used.", 11 ~{STAT2} (hiz) "Status Indicator for Diode 2. Open-drain output pulls down during forward diode conduction. This pin can be left open or grounded when not used.", 12 ~{WARN2} (oc) "Overcurrent and Thermal Warning Indicator for Diode 2. Open-drain output pulls down when diode 2 current exceeds its current limit or die temperature is close to thermal shutdown.", 13 ~{WARN1} (oc) "Overcurrent and Thermal Warning Indicator for Diode 1. Open-drain output pulls down when diode 1 current exceeds its current limit or die temperature is close to thermal shutdown.", 14 ~{STAT1} (hiz) "Status Indicator for Diode 1. Open-drain output pulls down during forward diode conduction. This pin can be left open or grounded when not used.", 15 OUT1 (power) "Diode 1 Cathode and Output of LTC4415. Bypass OUT1 with a ceramic capacitor of at least 4.7uF. Pins 15 and 16 are fused together on the package. Leave these pins open when not used.", 16 OUT1 (power) "Diode 1 Cathode and Output of LTC4415. Bypass OUT1 with a ceramic capacitor of at least 4.7uF. Pins 15 and 16 are fused together on the package. Leave these pins open when not used.", 17 EP (power) "Device Ground. The exposed pad must be soldered to PCB ground to provide both electrical connection to ground and good thermal conductivity to PCB."

## LTC4415EMSE#PBF
designator U?
Dual 4 A Ideal Diode with Adjustable Current Limit, Imon Output, Overcurrent Warning, Thermal Warning, 1.7 to 5.5 V Vin, 16-pin SOP (MSE-16-EDP), -40 to 125 degC, Pb-Free; Manufacturer: Linear Technology; PartNumber: LTC4415EMSE#PBF; Ideal Diode: Dual, Internal, P-Channel; DatasheetVersion: Rev. Ø; PackageVersion: Rev. F, 05/2013; PackageReference: MSE-16; PackageDescription: 16-Pin Plastic MSOP, Exposed Die Pad, Body 4.039 x 3 mm, Pitch 0.5 mm; Supplier 1: Digi-Key; Supplier Part Number 1: LTC4415EMSE#PBF-ND; Supplier 2: Farnell; Supplier Part Number 2: 2082318; Supplier 3: Newark; Supplier Part Number 3: 78T3428; RoHS: TRUE; Mounting Technology: Surface Mount; ComponentLink1Description: Manufacturer URL; ComponentLink1URL: http://www.linear.com/; ComponentLink2Description: Datasheet; ComponentLink2URL: http://cds.linear.com/docs/en/datasheet/4415fa.pdf; ComponentLink3Description: Package Specification; ComponentLink3URL: http://cds.linear.com/docs/en/packaging/05081667_F_MSE16.pdf
footprint LT-MSE-16-EDP_N (SOP, 16-Leads, Body 4.1x3.1mm, Pitch 0.5mm, Thermal Pad 2.95x1.76mm, IPC Medium Density)
footprint LT-MSE-16-EDP_L (SOP, 16-Leads, Body 4.1x3.1mm, Pitch 0.5mm, Thermal Pad 2.95x1.76mm, IPC High Density)
footprint LT-MSE-16-EDP_M (SOP, 16-Leads, Body 4.1x3.1mm, Pitch 0.5mm, Thermal Pad 2.95x1.76mm, IPC Low Density)
pins: 1 IN1 (power) "Diode 1 Anode and Positive Power Supply for LTC4415. Bypass IN1 with a ceramic capacitor of at least 4.7uF. Pins 1 and 2 are fused together on the package. These pins can be grounded when not used.", 2 IN1 (power) "Diode 1 Anode and Positive Power Supply for LTC4415. Bypass IN1 with a ceramic capacitor of at least 4.7uF. Pins 1 and 2 are fused together on the package. These pins can be grounded when not used.", 3 EN1 (in) "Enable Input for Diode 1. A high signal greater than VENTH enables Diode 1.", 4 CLIM1 (in) "Current Limit Adjust and Monitor Pin for Diode 1. Connect a resistor from CLIM1 to ground to set the current limit; the diode 1 current can then be monitored by measuring the voltage on CLIM1 pin. A fixed 6A internal current (See Datasheet)", 5 CLIM2 (in) "Current Limit Adjust and Monitor Pin for Diode 2. Connect a resistor from CLIM2 to ground to set the current limit; the diode 2 current can then be monitored by measuring the voltage on CLIM2 pin. A fixed 6A internal current (See Datasheet)", 6 ~{EN2} (in) "Enable Input for Diode 2. A low signal less than VENTH enables Diode 2.", 7 IN2 (power) "Diode 2 Anode and Positive Power Supply for LTC4415. Bypass IN2 with a ceramic capacitor of at least 4.7uF. Pins 7 and 8 are fused together on the package. These pins can be grounded when not used.", 8 IN2 (power) "Diode 2 Anode and Positive Power Supply for LTC4415. Bypass IN2 with a ceramic capacitor of at least 4.7uF. Pins 7 and 8 are fused together on the package. These pins can be grounded when not used.", 9 OUT2 (power) "Diode 2 Cathode and Output of LTC4415. Bypass OUT2 with a ceramic capacitor of at least 4.7uF. Pins 9 and 10 are fused together on the package. Leave these pins open when not used.", 10 OUT2 (power) "Diode 2 Cathode and Output of LTC4415. Bypass OUT2 with a ceramic capacitor of at least 4.7uF. Pins 9 and 10 are fused together on the package. Leave these pins open when not used.", 11 ~{STAT2} (hiz) "Status Indicator for Diode 2. Open-drain output pulls down during forward diode conduction. This pin can be left open or grounded when not used.", 12 ~{WARN2} (oc) "Overcurrent and Thermal Warning Indicator for Diode 2. Open-drain output pulls down when diode 2 current exceeds its current limit or die temperature is close to thermal shutdown.", 13 ~{WARN1} (oc) "Overcurrent and Thermal Warning Indicator for Diode 1. Open-drain output pulls down when diode 1 current exceeds its current limit or die temperature is close to thermal shutdown.", 14 ~{STAT1} (hiz) "Status Indicator for Diode 1. Open-drain output pulls down during forward diode conduction. This pin can be left open or grounded when not used.", 15 OUT1 (power) "Diode 1 Cathode and Output of LTC4415. Bypass OUT1 with a ceramic capacitor of at least 4.7uF. Pins 15 and 16 are fused together on the package. Leave these pins open when not used.", 16 OUT1 (power) "Diode 1 Cathode and Output of LTC4415. Bypass OUT1 with a ceramic capacitor of at least 4.7uF. Pins 15 and 16 are fused together on the package. Leave these pins open when not used.", 17 EP (power) "Device Ground. The exposed pad must be soldered to PCB ground to provide both electrical connection to ground and good thermal conductivity to PCB."

## LTC4415EMSE#TRPBF
designator U?
Dual 4 A Ideal Diode with Adjustable Current Limit, Imon Output, Overcurrent Warning, Thermal Warning, 1.7 to 5.5 V Vin, 16-pin SOP (MSE-16-EDP), -40 to 125 degC, Pb-Free, Tape and Reel; Manufacturer: Linear Technology; PartNumber: LTC4415EMSE#TRPBF; Ideal Diode: Dual, Internal, P-Channel; DatasheetVersion: Rev. Ø; PackageVersion: Rev. F, 05/2013; PackageReference: MSE-16; PackageDescription: 16-Pin Plastic MSOP, Exposed Die Pad, Body 4.039 x 3 mm, Pitch 0.5 mm; Supplier 1: Digi-Key; Supplier Part Number 1: LTC4415EMSE#TRPBF-ND; Supplier 2: Newark; Supplier Part Number 2: 78T3429; Packing: Tape and Reel; RoHS: TRUE; Mounting Technology: Surface Mount; ComponentLink1Description: Manufacturer URL; ComponentLink1URL: http://www.linear.com/; ComponentLink2Description: Datasheet; ComponentLink2URL: http://cds.linear.com/docs/en/datasheet/4415fa.pdf; ComponentLink3Description: Package Specification; ComponentLink3URL: http://cds.linear.com/docs/en/packaging/05081667_F_MSE16.pdf
footprint LT-MSE-16-EDP_N (SOP, 16-Leads, Body 4.1x3.1mm, Pitch 0.5mm, Thermal Pad 2.95x1.76mm, IPC Medium Density)
footprint LT-MSE-16-EDP_L (SOP, 16-Leads, Body 4.1x3.1mm, Pitch 0.5mm, Thermal Pad 2.95x1.76mm, IPC High Density)
footprint LT-MSE-16-EDP_M (SOP, 16-Leads, Body 4.1x3.1mm, Pitch 0.5mm, Thermal Pad 2.95x1.76mm, IPC Low Density)
pins: 1 IN1 (power) "Diode 1 Anode and Positive Power Supply for LTC4415. Bypass IN1 with a ceramic capacitor of at least 4.7uF. Pins 1 and 2 are fused together on the package. These pins can be grounded when not used.", 2 IN1 (power) "Diode 1 Anode and Positive Power Supply for LTC4415. Bypass IN1 with a ceramic capacitor of at least 4.7uF. Pins 1 and 2 are fused together on the package. These pins can be grounded when not used.", 3 EN1 (in) "Enable Input for Diode 1. A high signal greater than VENTH enables Diode 1.", 4 CLIM1 (in) "Current Limit Adjust and Monitor Pin for Diode 1. Connect a resistor from CLIM1 to ground to set the current limit; the diode 1 current can then be monitored by measuring the voltage on CLIM1 pin. A fixed 6A internal current (See Datasheet)", 5 CLIM2 (in) "Current Limit Adjust and Monitor Pin for Diode 2. Connect a resistor from CLIM2 to ground to set the current limit; the diode 2 current can then be monitored by measuring the voltage on CLIM2 pin. A fixed 6A internal current (See Datasheet)", 6 ~{EN2} (in) "Enable Input for Diode 2. A low signal less than VENTH enables Diode 2.", 7 IN2 (power) "Diode 2 Anode and Positive Power Supply for LTC4415. Bypass IN2 with a ceramic capacitor of at least 4.7uF. Pins 7 and 8 are fused together on the package. These pins can be grounded when not used.", 8 IN2 (power) "Diode 2 Anode and Positive Power Supply for LTC4415. Bypass IN2 with a ceramic capacitor of at least 4.7uF. Pins 7 and 8 are fused together on the package. These pins can be grounded when not used.", 9 OUT2 (power) "Diode 2 Cathode and Output of LTC4415. Bypass OUT2 with a ceramic capacitor of at least 4.7uF. Pins 9 and 10 are fused together on the package. Leave these pins open when not used.", 10 OUT2 (power) "Diode 2 Cathode and Output of LTC4415. Bypass OUT2 with a ceramic capacitor of at least 4.7uF. Pins 9 and 10 are fused together on the package. Leave these pins open when not used.", 11 ~{STAT2} (hiz) "Status Indicator for Diode 2. Open-drain output pulls down during forward diode conduction. This pin can be left open or grounded when not used.", 12 ~{WARN2} (oc) "Overcurrent and Thermal Warning Indicator for Diode 2. Open-drain output pulls down when diode 2 current exceeds its current limit or die temperature is close to thermal shutdown.", 13 ~{WARN1} (oc) "Overcurrent and Thermal Warning Indicator for Diode 1. Open-drain output pulls down when diode 1 current exceeds its current limit or die temperature is close to thermal shutdown.", 14 ~{STAT1} (hiz) "Status Indicator for Diode 1. Open-drain output pulls down during forward diode conduction. This pin can be left open or grounded when not used.", 15 OUT1 (power) "Diode 1 Cathode and Output of LTC4415. Bypass OUT1 with a ceramic capacitor of at least 4.7uF. Pins 15 and 16 are fused together on the package. Leave these pins open when not used.", 16 OUT1 (power) "Diode 1 Cathode and Output of LTC4415. Bypass OUT1 with a ceramic capacitor of at least 4.7uF. Pins 15 and 16 are fused together on the package. Leave these pins open when not used.", 17 EP (power) "Device Ground. The exposed pad must be soldered to PCB ground to provide both electrical connection to ground and good thermal conductivity to PCB."

## LTC4415IDHC#PBF
designator U?
Dual 4 A Ideal Diode with Adjustable Current Limit, Imon Output, Overcurrent Warning, Thermal Warning, 1.7 to 5.5 V Vin, 16-pin DFN (DHC-16_A), -40 to 125 degC, Pb-Free; Manufacturer: Linear Technology; PartNumber: LTC4415IDHC#PBF; Ideal Diode: Dual, Internal, P-Channel; DatasheetVersion: Rev. Ø; PackageVersion: Rev. Ø; PackageReference: DHC-16; PackageDescription: 16-Pin Plastic DFN, Body 5 x 3 mm, Pitch 0.5 mm; Supplier 1: Digi-Key; Supplier Part Number 1: LTC4415IDHC#PBF-ND; Supplier 2: Newark; Supplier Part Number 2: 78T3430; RoHS: TRUE; Mounting Technology: Surface Mount; Code_JEDEC: MO-229; ComponentLink1Description: Manufacturer URL; ComponentLink1URL: http://www.linear.com/; ComponentLink2Description: Datasheet; ComponentLink2URL: http://cds.linear.com/docs/en/datasheet/4415fa.pdf; ComponentLink3Description: Package Specification; ComponentLink3URL: http://cds.linear.com/docs/en/datasheet/4415fa.pdf
footprint LT-DHC-16_A_V (DHC-16_A, 16-Leads, Body 5x3mm, Pitch 0.5mm, Thermal Pad 4.4x1.65mm)
pins: 1 IN1 (power) "Diode 1 Anode and Positive Power Supply for LTC4415. Bypass IN1 with a ceramic capacitor of at least 4.7uF. Pins 1 and 2 are fused together on the package. These pins can be grounded when not used.", 2 IN1 (power) "Diode 1 Anode and Positive Power Supply for LTC4415. Bypass IN1 with a ceramic capacitor of at least 4.7uF. Pins 1 and 2 are fused together on the package. These pins can be grounded when not used.", 3 EN1 (in) "Enable Input for Diode 1. A high signal greater than VENTH enables Diode 1.", 4 CLIM1 (in) "Current Limit Adjust and Monitor Pin for Diode 1. Connect a resistor from CLIM1 to ground to set the current limit; the diode 1 current can then be monitored by measuring the voltage on CLIM1 pin. A fixed 6A internal current (See Datasheet)", 5 CLIM2 (in) "Current Limit Adjust and Monitor Pin for Diode 2. Connect a resistor from CLIM2 to ground to set the current limit; the diode 2 current can then be monitored by measuring the voltage on CLIM2 pin. A fixed 6A internal current (See Datasheet)", 6 ~{EN2} (in) "Enable Input for Diode 2. A low signal less than VENTH enables Diode 2.", 7 IN2 (power) "Diode 2 Anode and Positive Power Supply for LTC4415. Bypass IN2 with a ceramic capacitor of at least 4.7uF. Pins 7 and 8 are fused together on the package. These pins can be grounded when not used.", 8 IN2 (power) "Diode 2 Anode and Positive Power Supply for LTC4415. Bypass IN2 with a ceramic capacitor of at least 4.7uF. Pins 7 and 8 are fused together on the package. These pins can be grounded when not used.", 9 OUT2 (power) "Diode 2 Cathode and Output of LTC4415. Bypass OUT2 with a ceramic capacitor of at least 4.7uF. Pins 9 and 10 are fused together on the package. Leave these pins open when not used.", 10 OUT2 (power) "Diode 2 Cathode and Output of LTC4415. Bypass OUT2 with a ceramic capacitor of at least 4.7uF. Pins 9 and 10 are fused together on the package. Leave these pins open when not used.", 11 ~{STAT2} (hiz) "Status Indicator for Diode 2. Open-drain output pulls down during forward diode conduction. This pin can be left open or grounded when not used.", 12 ~{WARN2} (oc) "Overcurrent and Thermal Warning Indicator for Diode 2. Open-drain output pulls down when diode 2 current exceeds its current limit or die temperature is close to thermal shutdown.", 13 ~{WARN1} (oc) "Overcurrent and Thermal Warning Indicator for Diode 1. Open-drain output pulls down when diode 1 current exceeds its current limit or die temperature is close to thermal shutdown.", 14 ~{STAT1} (hiz) "Status Indicator for Diode 1. Open-drain output pulls down during forward diode conduction. This pin can be left open or grounded when not used.", 15 OUT1 (power) "Diode 1 Cathode and Output of LTC4415. Bypass OUT1 with a ceramic capacitor of at least 4.7uF. Pins 15 and 16 are fused together on the package. Leave these pins open when not used.", 16 OUT1 (power) "Diode 1 Cathode and Output of LTC4415. Bypass OUT1 with a ceramic capacitor of at least 4.7uF. Pins 15 and 16 are fused together on the package. Leave these pins open when not used.", 17 EP (power) "Device Ground. The exposed pad must be soldered to PCB ground to provide both electrical connection to ground and good thermal conductivity to PCB."